# EAGLE library part QFP160_SOCKET (library qfp160)
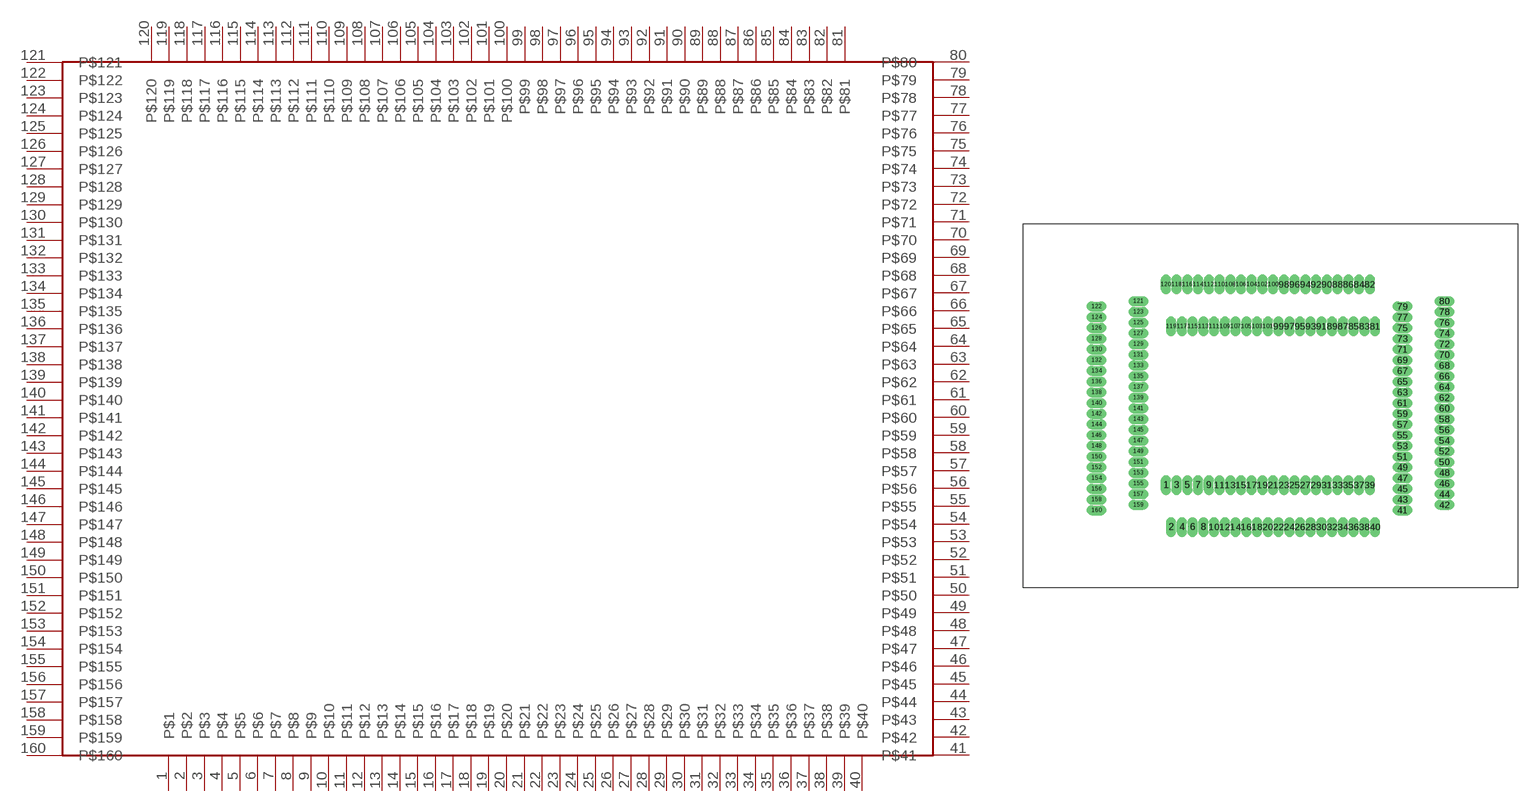
[diagram p0: symbol with the pads of QFP160_SOCKET; footprint QFP160_SOCKET]

Designator prefix -

## QFP160_SOCKET  [QFP160_SOCKET]
1  P$1
2  P$2
3  P$3
4  P$4
5  P$5
6  P$6
7  P$7
8  P$8
9  P$9
10  P$10
11  P$11
12  P$12
13  P$13
14  P$14
15  P$15
16  P$16
17  P$17
18  P$18
19  P$19
20  P$20
21  P$21
22  P$22
23  P$23
24  P$24
25  P$25
26  P$26
27  P$27
28  P$28
29  P$29
30  P$30
31  P$31
32  P$32
33  P$33
34  P$34
35  P$35
36  P$36
37  P$37
38  P$38
39  P$39
40  P$40
41  P$41
42  P$42
43  P$43
44  P$44
45  P$45
46  P$46
47  P$47
48  P$48
49  P$49
50  P$50
51  P$51
52  P$52
53  P$53
54  P$54
55  P$55
56  P$56
57  P$57
58  P$58
59  P$59
60  P$60
61  P$61
62  P$62
63  P$63
64  P$64
65  P$65
66  P$66
67  P$67
68  P$68
69  P$69
70  P$70
71  P$71
72  P$72
73  P$73
74  P$74
75  P$75
76  P$76
77  P$77
78  P$78
79  P$79
80  P$80
81  P$81
82  P$82
83  P$83
84  P$84
85  P$85
86  P$86
87  P$87
88  P$88
89  P$89
90  P$90
91  P$91
92  P$92
93  P$93
94  P$94
95  P$95
96  P$96
97  P$97
98  P$98
99  P$99
100  P$100
101  P$101
102  P$102
103  P$103
104  P$104
105  P$105
106  P$106
107  P$107
108  P$108
109  P$109
110  P$110
111  P$111
112  P$112
113  P$113
114  P$114
115  P$115
116  P$116
117  P$117
118  P$118
119  P$119
120  P$120
121  P$121
122  P$122
123  P$123
124  P$124
125  P$125
126  P$126
127  P$127
128  P$128
129  P$129
130  P$130
131  P$131
132  P$132
133  P$133
134  P$134
135  P$135
136  P$136
137  P$137
138  P$138
139  P$139
140  P$140
141  P$141
142  P$142
143  P$143
144  P$144
145  P$145
146  P$146
147  P$147
148  P$148
149  P$149
150  P$150
151  P$151
152  P$152
153  P$153
154  P$154
155  P$155
156  P$156
157  P$157
158  P$158
159  P$159
160  P$160

## Footprint QFP160_SOCKET (pad centres in mm)
drill 0.7 pad 0.7 long: 1 -12.675,-9.62; 2 -12.025,-14.7; 3 -11.375,-9.62; 4 -10.725,-14.7; 5 -10.075,-9.62; 6 -9.425,-14.7; 7 -8.775,-9.62; 8 -8.125,-14.7; 9 -7.475,-9.62; 10 -6.825,-14.7; 11 -6.175,-9.62; 12 -5.525,-14.7; 13 -4.875,-9.62; 14 -4.225,-14.7; 15 -3.575,-9.62; 16 -2.925,-14.7; 17 -2.275,-9.62; 18 -1.625,-14.7; 19 -0.975,-9.62; 20 -0.325,-14.7; 21 0.325,-9.62; 22 0.975,-14.7; 23 1.625,-9.62; 24 2.275,-14.7; 25 2.925,-9.62; 26 3.575,-14.7; 27 4.225,-9.62; 28 4.875,-14.7; 29 5.525,-9.62; 30 6.175,-14.7; 31 6.825,-9.62; 32 7.475,-14.7; 33 8.125,-9.62; 34 8.775,-14.7; 35 9.425,-9.62; 36 10.075,-14.7; 37 10.725,-9.62; 38 11.375,-14.7; 39 12.025,-9.62; 40 12.675,-14.7; 41 16,-12.675; 42 21.08,-12.025; 43 16,-11.375; 44 21.08,-10.725; 45 16,-10.075; 46 21.08,-9.425; 47 16,-8.775; 48 21.08,-8.125; 49 16,-7.475; 50 21.08,-6.825; 51 16,-6.175; 52 21.08,-5.525; 53 16,-4.875; 54 21.08,-4.225; 55 16,-3.575; 56 21.08,-2.925; 57 16,-2.275; 58 21.08,-1.625; 59 16,-0.975; 60 21.08,-0.325; 61 16,0.325; 62 21.08,0.975; 63 16,1.625; 64 21.08,2.275; 65 16,2.925; 66 21.08,3.575; 67 16,4.225; 68 21.08,4.875; 69 16,5.525; 70 21.08,6.175; 71 16,6.825; 72 21.08,7.475; 73 16,8.125; 74 21.08,8.775; 75 16,9.425; 76 21.08,10.075; 77 16,10.725; 78 21.08,11.375; 79 16,12.025; 80 21.08,12.675; 81 12.675,9.62; 82 12.025,14.7; 83 11.375,9.62; 84 10.725,14.7; 85 10.075,9.62; 86 9.425,14.7; 87 8.775,9.62; 88 8.125,14.7; 89 7.475,9.62; 90 6.825,14.7; 91 6.175,9.62; 92 5.525,14.7; 93 4.875,9.62; 94 4.225,14.7; 95 3.575,9.62; 96 2.925,14.7; 97 2.275,9.62; 98 1.625,14.7; 99 0.975,9.62; 100 0.325,14.7; 101 -0.325,9.62; 102 -0.975,14.7; 103 -1.625,9.62; 104 -2.275,14.7; 105 -2.925,9.62; 106 -3.575,14.7; 107 -4.225,9.62; 108 -4.875,14.7; 109 -5.525,9.62; 110 -6.175,14.7; 111 -6.825,9.62; 112 -7.475,14.7; 113 -8.125,9.62; 114 -8.775,14.7; 115 -9.425,9.62; 116 -10.075,14.7; 117 -10.725,9.62; 118 -11.375,14.7; 119 -12.025,9.62; 120 -12.675,14.7; 121 -16,12.675; 122 -21.06,12.025; 123 -16,11.375; 124 -21.06,10.725; 125 -16,10.075; 126 -21.06,9.425; 127 -16,8.775; 128 -21.06,8.125; 129 -16,7.475; 130 -21.06,6.825; 131 -16,6.175; 132 -21.06,5.525; 133 -16,4.875; 134 -21.06,4.225; 135 -16,3.575; 136 -21.06,2.925; 137 -16,2.275; 138 -21.06,1.625; 139 -16,0.975; 140 -21.06,0.325; 141 -16,-0.325; 142 -21.06,-0.975; 143 -16,-1.625; 144 -21.06,-2.275; 145 -16,-2.925; 146 -21.06,-3.575; 147 -16,-4.225; 148 -21.06,-4.875; 149 -16,-5.525; 150 -21.06,-6.175; 151 -16,-6.825; 152 -21.06,-7.475; 153 -16,-8.125; 154 -21.06,-8.775; 155 -16,-9.425; 156 -21.06,-10.075; 157 -16,-10.725; 158 -21.06,-11.375; 159 -16,-12.025; 160 -21.06,-12.675